# EAGLE library part IC-80 (library cu01)
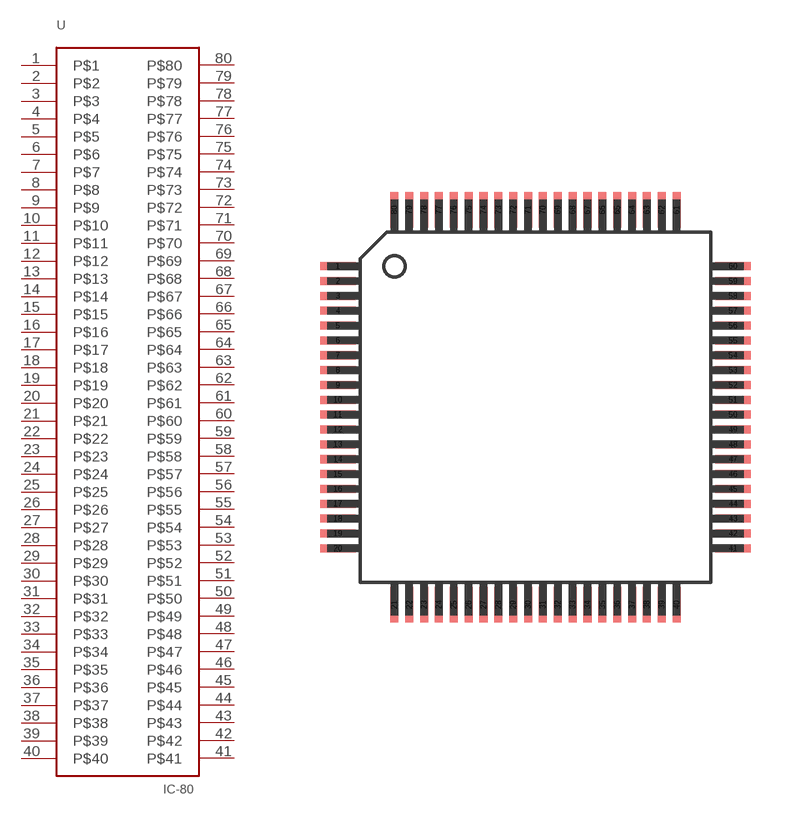
[diagram p0: symbol with the pads of TQFP-80; footprint TQFP-80]

Designator prefix -

## IC-80  [TQFP-80]
1  P$1
2  P$2
3  P$3
4  P$4
5  P$5
6  P$6
7  P$7
8  P$8
9  P$9
10  P$10
11  P$11
12  P$12
13  P$13
14  P$14
15  P$15
16  P$16
17  P$17
18  P$18
19  P$19
20  P$20
21  P$21
22  P$22
23  P$23
24  P$24
25  P$25
26  P$26
27  P$27
28  P$28
29  P$29
30  P$30
31  P$31
32  P$32
33  P$33
34  P$34
35  P$35
36  P$36
37  P$37
38  P$38
39  P$39
40  P$40
41  P$41
42  P$42
43  P$43
44  P$44
45  P$45
46  P$46
47  P$47
48  P$48
49  P$49
50  P$50
51  P$51
52  P$52
53  P$53
54  P$54
55  P$55
56  P$56
57  P$57
58  P$58
59  P$59
60  P$60
61  P$61
62  P$62
63  P$63
64  P$64
65  P$65
66  P$66
67  P$67
68  P$68
69  P$69
70  P$70
71  P$71
72  P$72
73  P$73
74  P$74
75  P$75
76  P$76
77  P$77
78  P$78
79  P$79
80  P$80

## Footprint TQFP-80 (pad centres in mm)
smd 1.2 x 0.27: 1 -5.89,4.6; 2 -5.89,4.1; 3 -5.89,3.6; 4 -5.89,3.1; 5 -5.89,2.6; 6 -5.89,2.1; 7 -5.89,1.6; 8 -5.89,1.1; 9 -5.89,0.6; 10 -5.89,0.1; 11 -5.89,-0.4; 12 -5.89,-0.9; 13 -5.89,-1.4; 14 -5.89,-1.9; 15 -5.89,-2.4; 16 -5.89,-2.9; 17 -5.89,-3.4; 18 -5.89,-3.9; 19 -5.89,-4.4; 20 -5.89,-4.9; 41 7.41,-4.9; 42 7.41,-4.4; 43 7.41,-3.9; 44 7.41,-3.4; 45 7.41,-2.9; 46 7.41,-2.4; 47 7.41,-1.9; 48 7.41,-1.4; 49 7.41,-0.9; 50 7.41,-0.4; 51 7.41,0.1; 52 7.41,0.6; 53 7.41,1.1; 54 7.41,1.6; 55 7.41,2.1; 56 7.41,2.6; 57 7.41,3.1; 58 7.41,3.6; 59 7.41,4.1; 60 7.41,4.6
smd 0.27 x 1.2: 21 -3.99,-6.8; 22 -3.49,-6.8; 23 -2.99,-6.8; 24 -2.49,-6.8; 25 -1.99,-6.8; 26 -1.49,-6.8; 27 -0.99,-6.8; 28 -0.49,-6.8; 29 0.01,-6.8; 30 0.51,-6.8; 31 1.01,-6.8; 32 1.51,-6.8; 33 2.01,-6.8; 34 2.51,-6.8; 35 3.01,-6.8; 36 3.51,-6.8; 37 4.01,-6.8; 38 4.51,-6.8; 39 5.01,-6.8; 40 5.51,-6.8; 61 5.51,6.5; 62 5.01,6.5; 63 4.51,6.5; 64 4.01,6.5; 65 3.51,6.5; 66 3.01,6.5; 67 2.51,6.5; 68 2.01,6.5; 69 1.51,6.5; 70 1.01,6.5; 71 0.51,6.5; 72 0.01,6.5; 73 -0.49,6.5; 74 -0.99,6.5; 75 -1.49,6.5; 76 -1.99,6.5; 77 -2.49,6.5; 78 -2.99,6.5; 79 -3.49,6.5; 80 -3.99,6.5